# Altium footprint library ARMflash_C_V5_1.PcbLib: 72 footprints (part 1 of 5)
Each footprint in its own frame and in the unit in brackets; x right, y up, seen from the top. Pads: shape width x height; smd on the part's side, far side on the other; paste and mask are expansions set on the pad; w line width, h text height; cw(c..) or ccw(c..) is an arc to the next point about the centre after c.
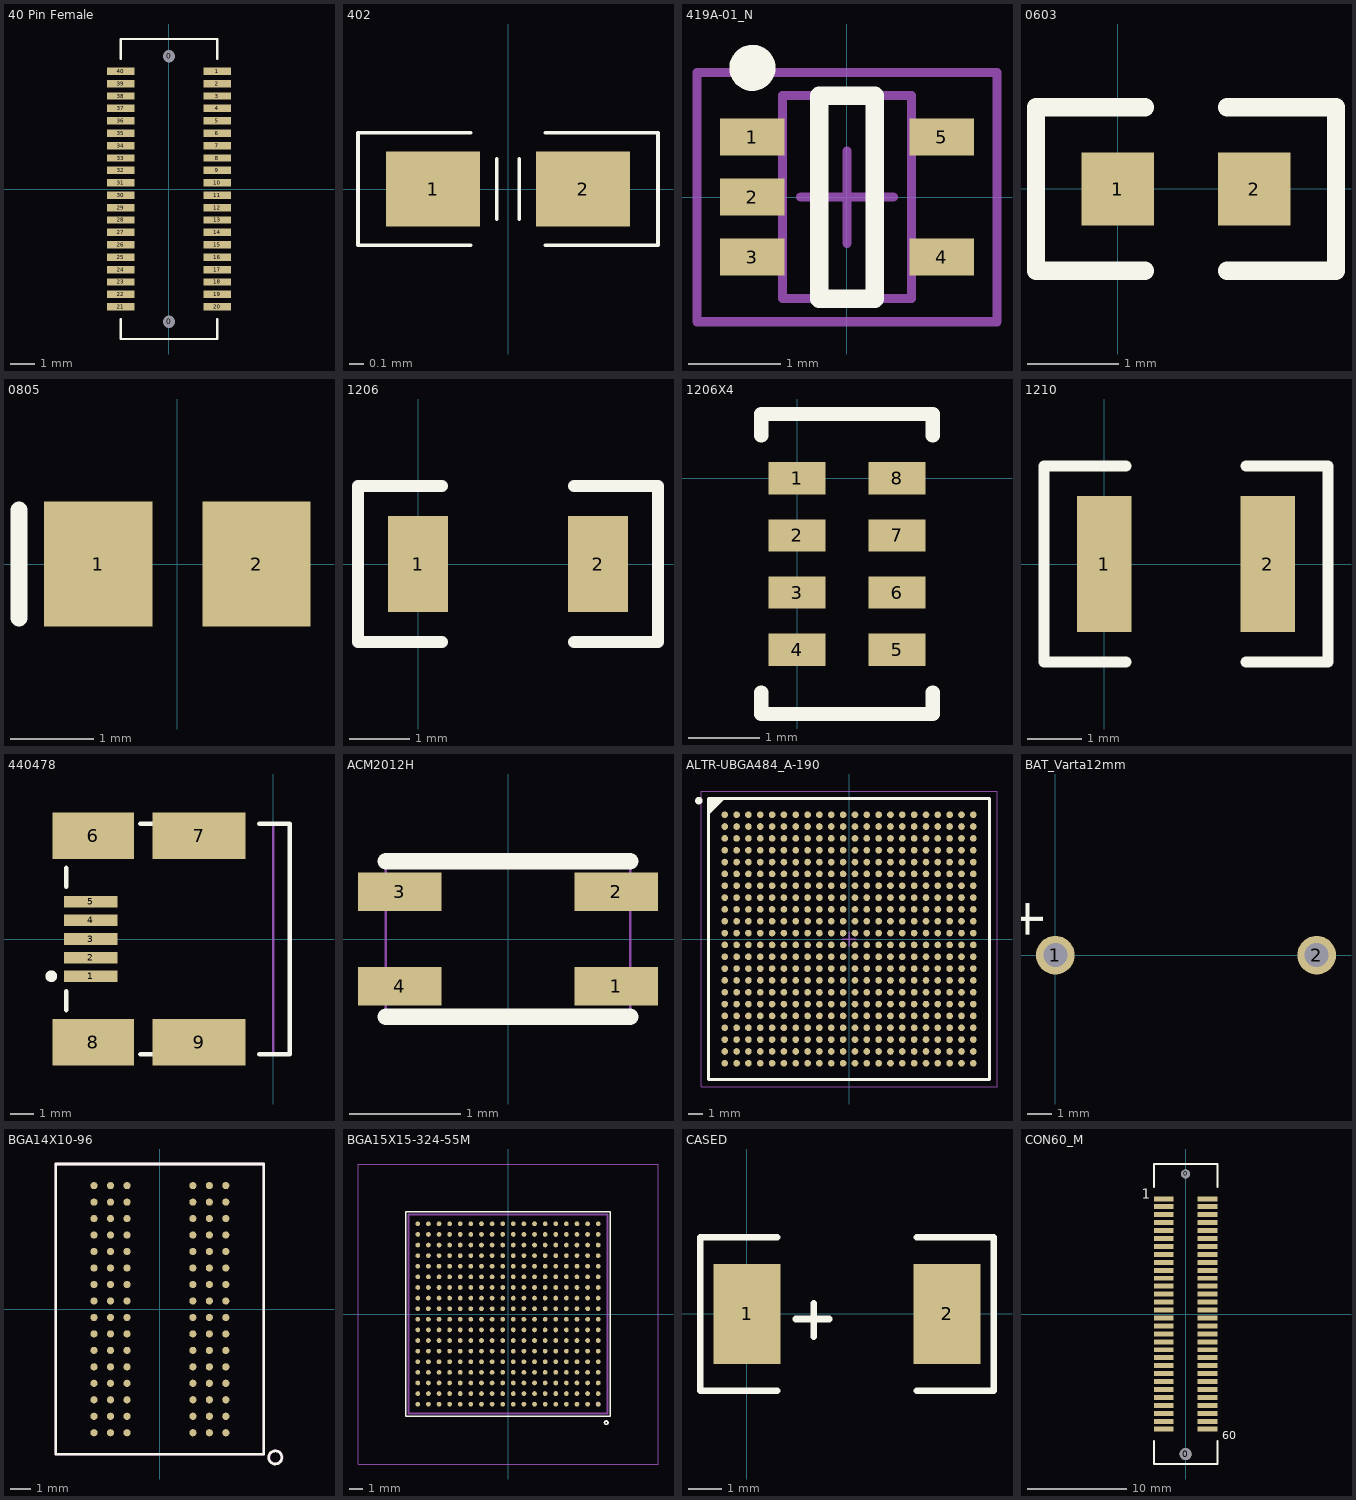
[diagram p0: the footprints below, top view; thin cyan lines are the x and y axes]

## 40 Pin Female [mm]
height 5
pads (42):
  round 0.4 hole 0.5 unplated paste-0.03 mask+0: 0(0,-5.35) 0(0,5.35)
  rect 1.1x0.3 smd paste-0.03 mask+0.05: 1(1.95,4.75) 2(1.95,4.25) 3(1.95,3.75) 4(1.95,3.25) 5(1.95,2.75) 6(1.95,2.25) 7(1.95,1.75) 8(1.95,1.25) 9(1.95,0.75) 10(1.95,0.25) 11(1.95,-0.25) 12(1.95,-0.75) 13(1.95,-1.25) 14(1.95,-1.75) 15(1.95,-2.25) 16(1.95,-2.75) 17(1.95,-3.25) 18(1.95,-3.75) 19(1.95,-4.25) 20(1.95,-4.75) 21(-1.95,-4.75) 22(-1.95,-4.25) 23(-1.95,-3.75) 24(-1.95,-3.25) 25(-1.95,-2.75) 26(-1.95,-2.25) 27(-1.95,-1.75) 28(-1.95,-1.25) 29(-1.95,-0.75) 30(-1.95,-0.25) 31(-1.95,0.25) 32(-1.95,0.75) 33(-1.95,1.25) 34(-1.95,1.75) 35(-1.95,2.25) 36(-1.95,2.75) 37(-1.95,3.25) 38(-1.95,3.75) 39(-1.95,4.25) 40(-1.95,4.75)
Top Overlay:
  lines w0.1: -1.95,-5.25 -1.95,-6.05 1.95,-6.05 1.95,-5.25 ; -1.95,5.25 -1.95,6.05 1.95,6.05 1.95,5.25

## 402 [mil]
pads (2):
  rect 25x20 smd paste-1.18 mask+2: 1(-20,0) 2(20,0)
Top Overlay:
  lines w1: -10,-15 -40,-15 -40,15 -10,15 ; -3,-8 -3,8 ; 3,-8 3,8 ; 10,-15 40,-15 40,15 10,15

## 419A-01_N [mm]
pads (5):
  rect 0.7x0.4 smd paste-0.03: 1(-1.025,0.65) 2(-1.025,0) 3(-1.025,-0.65) 4(1.025,-0.65) 5(1.025,0.65)
Top Overlay:
  circle w0.25: c-1.025,1.4 r0.125
  lines w0.2: -0.3,-1.1 0.3,-1.1 0.3,1.1 -0.3,1.1 -0.3,-1.1
Mechanical 13:
  lines w0.1: -0.7,-1.1 -0.7,1.1 0.7,1.1 0.7,-1.1 -0.7,-1.1
Mechanical 15:
  lines w0.1: -0.5,0 0.5,0 ; 0,-0.5 0,0.5 ; -1.625,-1.35 -1.625,1.35 1.625,1.35 1.625,-1.35 -1.625,-1.35
3D body: height 1.1, standoff 0, extent -0.7,-1.1 0.7,1.1

## 0603 [mm]
pads (2):
  rect 0.8x0.8 smd paste-0.03: 1(0,0) 2(1.5,0)
Top Overlay:
  lines w0.2: 0.3,-0.9 -0.9,-0.9 -0.9,0.9 0.3,0.9 ; 1.2,-0.9 2.4,-0.9 2.4,0.9 1.2,0.9

## 0805 [mm] "Chip Capacitor; Body 2.0 x 1.2 mm (LxW typ)"
height 1.3
pads (2):
  rect 1.3x1.5 smd paste-0.03: 1(-0.95,0) 2(0.95,0)
Top Overlay:
  lines w0.2: -1.9,-0.65 -1.9,0.65

## 1206 [mm] "1206 smd"
height 1.6
pads (2):
  rect 1x1.6 smd paste-0.03: 1(0,0) 2(3,0)
Top Overlay:
  lines w0.2: 0.4,-1.3 -1,-1.3 -1,1.3 0.4,1.3 ; 2.6,-1.3 4,-1.3 4,1.3 2.6,1.3

## 1206X4 [mm]
pads (8):
  rect 0.8x0.45 smd paste-0.03: 1(0,0) 2(0,-0.8) 3(0,-1.6) 4(0,-2.4) 5(1.4,-2.4) 6(1.4,-1.6) 7(1.4,-0.8) 8(1.4,0)
Top Overlay:
  lines w0.2: -0.5,-3 -0.5,-3.3 1.9,-3.3 1.9,-3 ; -0.5,0.6 -0.5,0.9 1.9,0.9 1.9,0.6

## 1210 [mm]
pads (2):
  rect 1x2.5 smd paste-0.03: 1(0,0) 2(3,0)
Top Overlay:
  lines w0.2: 0.4,-1.8 -1.1,-1.8 -1.1,1.8 0.4,1.8 ; 2.6,-1.8 4.1,-1.8 4.1,1.8 2.6,1.8

## 440478 [mm]
pads (9):
  rect 2.3x0.5 smd paste-0.03 mask+0.051: 1(-7.85,-1.6) 2(-7.85,-0.8) 3(-7.85,0) 4(-7.85,0.8) 5(-7.85,1.6)
  rect 3.5x2 smd paste-0.03: 6(-7.75,4.45) 8(-7.75,-4.45)
  rect 4x2 smd paste-0.03: 7(-3.197,4.45) 9(-3.197,-4.45)
Top Overlay:
  circle w0.25: c-9.55,-1.6 r0.125
  lines w0.2: -8.9,-3.05 -8.9,-2.25 ; -8.9,2.25 -8.9,3.05 ; -5.715,-4.953 -5.207,-4.953 ; -5.715,4.953 -5.207,4.953 ; -0.6,-4.95 0.7,-4.95 0.7,4.95 -0.6,4.95
Mechanical 1:
  lines w0.1: 0,-4.95 0,4.95
  text "PCB Edge" at 0.432,-4.036 h0.25

## ACM2012H [mm] "ACM2012H"
pads (4):
  rect 0.75x0.35 smd paste-0.03: 1(0.975,-0.425) 2(0.975,0.425) 3(-0.975,0.425) 4(-0.975,-0.425)
Top Overlay:
  lines w0.15: -1.1,-0.7 1.1,-0.7 ; -1.1,0.7 1.1,0.7
Mechanical 16:
  lines w0.025: -1.1,-0.7 -1.1,0.7 1.1,0.7 1.1,-0.7 -1.1,-0.7
  text "1" at 1.097,-1.226 h0.64
  text "3" at -0.975,0.933 h0.64
  text "4" at -0.975,0.083 h0.64
  text "2" at 0.975,0.933 h0.64
  text "1" at 0.975,0.083 h0.64

## ALTR-UBGA484_A-190 [mm] "BGA, 484-Balls, Body 19x19mm, Pitch 0.8mm"
height 1.9
pads (484):
  round 0.45 smd paste-0.01: A1(-8.4,8.4) A2(-7.6,8.4) A3(-6.8,8.4) A4(-6,8.4) A5(-5.2,8.4) A6(-4.4,8.4) A7(-3.6,8.4) A8(-2.8,8.4) A9(-2,8.4) A10(-1.2,8.4) A11(-0.4,8.4) A12(0.4,8.4) A13(1.2,8.4) A14(2,8.4) A15(2.8,8.4) A16(3.6,8.4) A17(4.4,8.4) A18(5.2,8.4) A19(6,8.4) A20(6.8,8.4) A21(7.6,8.4) A22(8.4,8.4) AA1(-8.4,-7.6) AA2(-7.6,-7.6) AA3(-6.8,-7.6) AA4(-6,-7.6) AA5(-5.2,-7.6) AA6(-4.4,-7.6) AA7(-3.6,-7.6) AA8(-2.8,-7.6) AA9(-2,-7.6) AA10(-1.2,-7.6) AA11(-0.4,-7.6) AA12(0.4,-7.6) AA13(1.2,-7.6) AA14(2,-7.6) AA15(2.8,-7.6) AA16(3.6,-7.6) AA17(4.4,-7.6) AA18(5.2,-7.6) AA19(6,-7.6) AA20(6.8,-7.6) AA21(7.6,-7.6) AA22(8.4,-7.6) AB1(-8.4,-8.4) AB2(-7.6,-8.4) AB3(-6.8,-8.4) AB4(-6,-8.4) AB5(-5.2,-8.4) AB6(-4.4,-8.4) AB7(-3.6,-8.4) AB8(-2.8,-8.4) AB9(-2,-8.4) AB10(-1.2,-8.4) AB11(-0.4,-8.4) AB12(0.4,-8.4) AB13(1.2,-8.4) AB14(2,-8.4) AB15(2.8,-8.4) AB16(3.6,-8.4) AB17(4.4,-8.4) AB18(5.2,-8.4) AB19(6,-8.4) AB20(6.8,-8.4) AB21(7.6,-8.4) AB22(8.4,-8.4) B1(-8.4,7.6) B2(-7.6,7.6) B3(-6.8,7.6) B4(-6,7.6) B5(-5.2,7.6) B6(-4.4,7.6) B7(-3.6,7.6) B8(-2.8,7.6) B9(-2,7.6) B10(-1.2,7.6) B11(-0.4,7.6) B12(0.4,7.6) B13(1.2,7.6) B14(2,7.6) B15(2.8,7.6) B16(3.6,7.6) B17(4.4,7.6) B18(5.2,7.6) B19(6,7.6) B20(6.8,7.6) B21(7.6,7.6) B22(8.4,7.6) C1(-8.4,6.8) C2(-7.6,6.8) C3(-6.8,6.8) C4(-6,6.8) C5(-5.2,6.8) C6(-4.4,6.8) C7(-3.6,6.8) C8(-2.8,6.8) C9(-2,6.8) C10(-1.2,6.8) C11(-0.4,6.8) C12(0.4,6.8) C13(1.2,6.8) C14(2,6.8) C15(2.8,6.8) C16(3.6,6.8) C17(4.4,6.8) C18(5.2,6.8) C19(6,6.8) C20(6.8,6.8) C21(7.6,6.8) C22(8.4,6.8) D1(-8.4,6) D2(-7.6,6) D3(-6.8,6) D4(-6,6) D5(-5.2,6) D6(-4.4,6) D7(-3.6,6) D8(-2.8,6) D9(-2,6) D10(-1.2,6) D11(-0.4,6) D12(0.4,6) D13(1.2,6) D14(2,6) D15(2.8,6) D16(3.6,6) D17(4.4,6) D18(5.2,6) D19(6,6) D20(6.8,6) D21(7.6,6) D22(8.4,6) E1(-8.4,5.2) E2(-7.6,5.2) E3(-6.8,5.2) E4(-6,5.2) E5(-5.2,5.2) E6(-4.4,5.2) E7(-3.6,5.2) E8(-2.8,5.2) E9(-2,5.2) E10(-1.2,5.2) E11(-0.4,5.2) E12(0.4,5.2) E13(1.2,5.2) E14(2,5.2) E15(2.8,5.2) E16(3.6,5.2) E17(4.4,5.2) E18(5.2,5.2) E19(6,5.2) E20(6.8,5.2) E21(7.6,5.2) E22(8.4,5.2) F1(-8.4,4.4) F2(-7.6,4.4) F3(-6.8,4.4) F4(-6,4.4) F5(-5.2,4.4) F6(-4.4,4.4) F7(-3.6,4.4) F8(-2.8,4.4) F9(-2,4.4) F10(-1.2,4.4) F11(-0.4,4.4) F12(0.4,4.4) F13(1.2,4.4) F14(2,4.4) F15(2.8,4.4) F16(3.6,4.4) F17(4.4,4.4) F18(5.2,4.4) F19(6,4.4) F20(6.8,4.4) F21(7.6,4.4) F22(8.4,4.4) G1(-8.4,3.6) G2(-7.6,3.6) G3(-6.8,3.6) G4(-6,3.6) G5(-5.2,3.6) G6(-4.4,3.6) G7(-3.6,3.6) G8(-2.8,3.6) G9(-2,3.6) G10(-1.2,3.6) G11(-0.4,3.6) G12(0.4,3.6) G13(1.2,3.6) G14(2,3.6) G15(2.8,3.6) G16(3.6,3.6) G17(4.4,3.6) G18(5.2,3.6) G19(6,3.6) G20(6.8,3.6) G21(7.6,3.6) G22(8.4,3.6) H1(-8.4,2.8) H2(-7.6,2.8) H3(-6.8,2.8) H4(-6,2.8) H5(-5.2,2.8) H6(-4.4,2.8) H7(-3.6,2.8) H8(-2.8,2.8) H9(-2,2.8) H10(-1.2,2.8) H11(-0.4,2.8) H12(0.4,2.8) H13(1.2,2.8) H14(2,2.8) H15(2.8,2.8) H16(3.6,2.8) H17(4.4,2.8) H18(5.2,2.8) H19(6,2.8) H20(6.8,2.8) H21(7.6,2.8) H22(8.4,2.8) J1(-8.4,2) J2(-7.6,2) J3(-6.8,2) J4(-6,2) J5(-5.2,2) J6(-4.4,2) J7(-3.6,2) J8(-2.8,2) J9(-2,2) J10(-1.2,2) J11(-0.4,2) J12(0.4,2) J13(1.2,2) J14(2,2) J15(2.8,2) J16(3.6,2) J17(4.4,2) J18(5.2,2) J19(6,2) J20(6.8,2) J21(7.6,2) J22(8.4,2) K1(-8.4,1.2) K2(-7.6,1.2) K3(-6.8,1.2) K4(-6,1.2) K5(-5.2,1.2) K6(-4.4,1.2) K7(-3.6,1.2) K8(-2.8,1.2) K9(-2,1.2) K10(-1.2,1.2) K11(-0.4,1.2) K12(0.4,1.2) K13(1.2,1.2) K14(2,1.2) K15(2.8,1.2) K16(3.6,1.2) K17(4.4,1.2) K18(5.2,1.2) K19(6,1.2) K20(6.8,1.2) K21(7.6,1.2) K22(8.4,1.2) L1(-8.4,0.4) L2(-7.6,0.4) L3(-6.8,0.4) L4(-6,0.4) L5(-5.2,0.4) L6(-4.4,0.4) L7(-3.6,0.4) L8(-2.8,0.4) L9(-2,0.4) L10(-1.2,0.4) L11(-0.4,0.4) L12(0.4,0.4) L13(1.2,0.4) L14(2,0.4) L15(2.8,0.4) L16(3.6,0.4) L17(4.4,0.4) L18(5.2,0.4) L19(6,0.4) L20(6.8,0.4) L21(7.6,0.4) L22(8.4,0.4) M1(-8.4,-0.4) M2(-7.6,-0.4) M3(-6.8,-0.4) M4(-6,-0.4) M5(-5.2,-0.4) M6(-4.4,-0.4) M7(-3.6,-0.4) M8(-2.8,-0.4) M9(-2,-0.4) M10(-1.2,-0.4) M11(-0.4,-0.4) M12(0.4,-0.4) M13(1.2,-0.4) M14(2,-0.4) M15(2.8,-0.4) M16(3.6,-0.4) M17(4.4,-0.4) M18(5.2,-0.4) M19(6,-0.4) M20(6.8,-0.4) M21(7.6,-0.4) M22(8.4,-0.4) N1(-8.4,-1.2) N2(-7.6,-1.2) N3(-6.8,-1.2) N4(-6,-1.2) N5(-5.2,-1.2) N6(-4.4,-1.2) N7(-3.6,-1.2) N8(-2.8,-1.2) N9(-2,-1.2) N10(-1.2,-1.2) N11(-0.4,-1.2) N12(0.4,-1.2) N13(1.2,-1.2) N14(2,-1.2) N15(2.8,-1.2) N16(3.6,-1.2) N17(4.4,-1.2) N18(5.2,-1.2) N19(6,-1.2) N20(6.8,-1.2) N21(7.6,-1.2) N22(8.4,-1.2) P1(-8.4,-2) P2(-7.6,-2) P3(-6.8,-2) P4(-6,-2) P5(-5.2,-2) P6(-4.4,-2) P7(-3.6,-2) P8(-2.8,-2) P9(-2,-2) P10(-1.2,-2) P11(-0.4,-2) P12(0.4,-2) P13(1.2,-2) P14(2,-2) P15(2.8,-2) P16(3.6,-2) P17(4.4,-2) P18(5.2,-2) P19(6,-2) P20(6.8,-2) P21(7.6,-2) P22(8.4,-2) R1(-8.4,-2.8) R2(-7.6,-2.8) R3(-6.8,-2.8) R4(-6,-2.8) R5(-5.2,-2.8) R6(-4.4,-2.8) R7(-3.6,-2.8) R8(-2.8,-2.8) R9(-2,-2.8) R10(-1.2,-2.8) R11(-0.4,-2.8) R12(0.4,-2.8) R13(1.2,-2.8) R14(2,-2.8) R15(2.8,-2.8) R16(3.6,-2.8) R17(4.4,-2.8) R18(5.2,-2.8) R19(6,-2.8) R20(6.8,-2.8) R21(7.6,-2.8) R22(8.4,-2.8) T1(-8.4,-3.6) T2(-7.6,-3.6) T3(-6.8,-3.6) T4(-6,-3.6) T5(-5.2,-3.6) T6(-4.4,-3.6) T7(-3.6,-3.6) T8(-2.8,-3.6) T9(-2,-3.6) T10(-1.2,-3.6) T11(-0.4,-3.6) T12(0.4,-3.6) T13(1.2,-3.6) T14(2,-3.6) T15(2.8,-3.6) T16(3.6,-3.6) T17(4.4,-3.6) T18(5.2,-3.6) T19(6,-3.6) T20(6.8,-3.6) T21(7.6,-3.6) T22(8.4,-3.6) U1(-8.4,-4.4) U2(-7.6,-4.4) U3(-6.8,-4.4) U4(-6,-4.4) U5(-5.2,-4.4) U6(-4.4,-4.4) U7(-3.6,-4.4) U8(-2.8,-4.4) U9(-2,-4.4) U10(-1.2,-4.4) U11(-0.4,-4.4) U12(0.4,-4.4) U13(1.2,-4.4) U14(2,-4.4) U15(2.8,-4.4) U16(3.6,-4.4) U17(4.4,-4.4) U18(5.2,-4.4) U19(6,-4.4) U20(6.8,-4.4) U21(7.6,-4.4) U22(8.4,-4.4) V1(-8.4,-5.2) V2(-7.6,-5.2) V3(-6.8,-5.2) V4(-6,-5.2) V5(-5.2,-5.2) V6(-4.4,-5.2) V7(-3.6,-5.2) V8(-2.8,-5.2) V9(-2,-5.2) V10(-1.2,-5.2) V11(-0.4,-5.2) V12(0.4,-5.2) V13(1.2,-5.2) V14(2,-5.2) V15(2.8,-5.2) V16(3.6,-5.2) V17(4.4,-5.2) V18(5.2,-5.2) V19(6,-5.2) V20(6.8,-5.2) V21(7.6,-5.2) V22(8.4,-5.2) W1(-8.4,-6) W2(-7.6,-6) W3(-6.8,-6) W4(-6,-6) W5(-5.2,-6) W6(-4.4,-6) W7(-3.6,-6) W8(-2.8,-6) W9(-2,-6) W10(-1.2,-6) W11(-0.4,-6) W12(0.4,-6) W13(1.2,-6) W14(2,-6) W15(2.8,-6) W16(3.6,-6) W17(4.4,-6) W18(5.2,-6) W19(6,-6) W20(6.8,-6) W21(7.6,-6) W22(8.4,-6) Y1(-8.4,-6.8) Y2(-7.6,-6.8) Y3(-6.8,-6.8) Y4(-6,-6.8) Y5(-5.2,-6.8) Y6(-4.4,-6.8) Y7(-3.6,-6.8) Y8(-2.8,-6.8) Y9(-2,-6.8) Y10(-1.2,-6.8) Y11(-0.4,-6.8) Y12(0.4,-6.8) Y13(1.2,-6.8) Y14(2,-6.8) Y15(2.8,-6.8) Y16(3.6,-6.8) Y17(4.4,-6.8) Y18(5.2,-6.8) Y19(6,-6.8) Y20(6.8,-6.8) Y21(7.6,-6.8) Y22(8.4,-6.8)
Top Overlay:
  circle w0.25: c-10.15,9.35 r0.125
  region: -8.5,9.5 -9.5,8.5 -9.5,9.5
  lines w0.2: -9.5,8.5 -8.5,9.5 ; -9.5,-9.5 -9.5,9.5 9.5,9.5 9.5,-9.5 -9.5,-9.5
Mechanical 13:
  lines w0.1: -9.5,-9.5 -9.5,9.5 9.5,9.5 9.5,-9.5 -9.5,-9.5
Mechanical 15:
  lines w0.05: -10,-10 -10,10 10,10 10,-10 -10,-10
  lines w0.1: -0.5,0 0.5,0 ; 0,-0.5 0,0.5
3D body: height 1.9, standoff 0.35, extent -9.5,-9.5 9.5,9.5

## BAT_Varta12mm [mm] "Varta 3.6V 15mA RS 422-387"
height 12.5
pads (2):
  round 1.6 hole 1 paste-0.03: 1(0,0) 2(10.8,0)
Top Overlay:
  text "+" at -0.508,0.61 h1.52

## BGA14X10-96 [mm]
pads (96):
  round 0.35 smd paste-0.01: A1(3.2,-6) A2(2.4,-6) A3(1.6,-6) A7(-1.6,-6) A8(-2.4,-6) A9(-3.2,-6) B1(3.2,-5.2) B2(2.4,-5.2) B3(1.6,-5.2) B7(-1.6,-5.2) B8(-2.4,-5.2) B9(-3.2,-5.2) C1(3.2,-4.4) C2(2.4,-4.4) C3(1.6,-4.4) C7(-1.6,-4.4) C8(-2.4,-4.4) C9(-3.2,-4.4) D1(3.2,-3.6) D2(2.4,-3.6) D3(1.6,-3.6) D7(-1.6,-3.6) D8(-2.4,-3.6) D9(-3.2,-3.6) E1(3.2,-2.8) E2(2.4,-2.8) E3(1.6,-2.8) E7(-1.6,-2.8) E8(-2.4,-2.8) E9(-3.2,-2.8) F1(3.2,-2) F2(2.4,-2) F3(1.6,-2) F7(-1.6,-2) F8(-2.4,-2) F9(-3.2,-2) G1(3.2,-1.2) G2(2.4,-1.2) G3(1.6,-1.2) G7(-1.6,-1.2) G8(-2.4,-1.2) G9(-3.2,-1.2) H1(3.2,-0.4) H2(2.4,-0.4) H3(1.6,-0.4) H7(-1.6,-0.4) H8(-2.4,-0.4) H9(-3.2,-0.4) J1(3.2,0.4) J2(2.4,0.4) J3(1.6,0.4) J7(-1.6,0.4) J8(-2.4,0.4) J9(-3.2,0.4) K1(3.2,1.2) K2(2.4,1.2) K3(1.6,1.2) K7(-1.6,1.2) K8(-2.4,1.2) K9(-3.2,1.2) L1(3.2,2) L2(2.4,2) L3(1.6,2) L7(-1.6,2) L8(-2.4,2) L9(-3.2,2) M1(3.2,2.8) M2(2.4,2.8) M3(1.6,2.8) M7(-1.6,2.8) M8(-2.4,2.8) M9(-3.2,2.8) N1(3.2,3.6) N2(2.4,3.6) N3(1.6,3.6) N7(-1.6,3.6) N8(-2.4,3.6) N9(-3.2,3.6) P1(3.2,4.4) P2(2.4,4.4) P3(1.6,4.4) P7(-1.6,4.4) P8(-2.4,4.4) P9(-3.2,4.4) R1(3.2,5.2) R2(2.4,5.2) R3(1.6,5.2) R7(-1.6,5.2) R8(-2.4,5.2) R9(-3.2,5.2) T1(3.2,6) T2(2.4,6) T3(1.6,6) T7(-1.6,6) T8(-2.4,6) T9(-3.2,6)
Top Overlay:
  circle w0.127: c5.6,-7.2 r0.318
  lines w0.127: -5.05,-7.05 -5.05,7.05 5.05,7.05 5.05,-7.05 -5.05,-7.05
Mechanical 16:
  circle w0.127: c5.613,-7.194 r0.318
  lines w0.127: -5.05,-7.05 -5.05,7.05 5.05,7.05 5.05,-7.05 -5.05,-7.05
  text "T2" at 2.4,5.492 h0.64
  text "L8" at -2.4,1.492 h0.64
  text "J1" at 3.2,-0.108 h0.64
  text "J9" at -3.2,-0.108 h0.64
  text "L1" at 3.2,1.492 h0.64
  text "L9" at -3.2,1.492 h0.64
  text "M7" at -1.6,2.292 h0.64
  text "T7" at -1.6,5.492 h0.64
  text "M3" at 1.6,2.292 h0.64
  text "M8" at -2.4,2.292 h0.64
  text "H1" at 3.2,-0.908 h0.64
  text "K1" at 3.2,0.692 h0.64
  text "B7" at -1.6,-5.708 h0.64
  text "G3" at 1.6,-1.708 h0.64
  text "J7" at -1.6,-0.108 h0.64
  text "L2" at 2.4,1.492 h0.64
  text "K7" at -1.6,0.692 h0.64
  text "D3" at 1.6,-4.108 h0.64
  text "C7" at -1.6,-4.908 h0.64
  text "F3" at 1.6,-2.508 h0.64
  text "E7" at -1.6,-3.308 h0.64
  text "L3" at 1.6,1.492 h0.64
  text "J3" at 1.6,-0.108 h0.64
  text "K3" at 1.6,0.692 h0.64
  text "K9" at -3.2,0.692 h0.64
  text "A7" at -1.6,-6.508 h0.64
  text "C8" at -2.4,-4.908 h0.64
  text "B8" at -2.4,-5.708 h0.64
  text "C2" at 2.4,-4.908 h0.64
  text "D7" at -1.6,-4.108 h0.64
  text "A2" at 2.4,-6.508 h0.64
  text "A3" at 1.6,-6.508 h0.64
  text "C3" at 1.6,-4.908 h0.64
  text "G1" at 3.2,-1.708 h0.64
  text "B1" at 3.2,-5.708 h0.64
  text "B9" at -3.2,-5.708 h0.64
  text "F9" at -3.2,-2.508 h0.64
  text "B3" at 1.6,-5.708 h0.64
  text "E2" at 2.4,-3.308 h0.64
  text "J2" at 2.4,-0.108 h0.64
  text "A9" at -3.2,-6.508 h0.64
  text "D1" at 3.2,-4.108 h0.64
  text "P1" at 3.2,3.892 h0.64
  text "M1" at 3.2,2.292 h0.64
  text "E1" at 3.2,-3.308 h0.64
  text "D8" at -2.4,-4.108 h0.64
  text "G9" at -3.2,-1.708 h0.64
  text "J8" at -2.4,-0.108 h0.64
  text "E8" at -2.4,-3.308 h0.64
  text "G8" at -2.4,-1.708 h0.64
  text "P9" at -3.2,3.892 h0.64
  text "M9" at -3.2,2.292 h0.64
  text "T9" at -3.2,5.492 h0.64
  text "T1" at 3.2,5.492 h0.64
  text "F8" at -2.4,-2.508 h0.64
  text "F7" at -1.6,-2.508 h0.64
  text "F2" at 2.4,-2.508 h0.64
  text "G2" at 2.4,-1.708 h0.64
  text "E3" at 1.6,-3.308 h0.64
  text "H3" at 1.6,-0.908 h0.64
  text "H7" at -1.6,-0.908 h0.64
  text "H8" at -2.4,-0.908 h0.64
  text "N8" at -2.4,3.092 h0.64
  text "M2" at 2.4,2.292 h0.64
  text "T3" at 1.6,5.492 h0.64
  text "N7" at -1.6,3.092 h0.64
  text "R7" at -1.6,4.692 h0.64
  text "L7" at -1.6,1.492 h0.64
  text "R3" at 1.6,4.692 h0.64
  text "T8" at -2.4,5.492 h0.64
  text "R2" at 2.4,4.692 h0.64
  text "R8" at -2.4,4.692 h0.64
  text "P2" at 2.4,3.892 h0.64
  text "P8" at -2.4,3.892 h0.64
  text "N2" at 2.4,3.092 h0.64
  text "P3" at 1.6,3.892 h0.64
  text "P7" at -1.6,3.892 h0.64
  text "A8" at -2.4,-6.508 h0.64
  text "D9" at -3.2,-4.108 h0.64
  text "C9" at -3.2,-4.908 h0.64
  text "E9" at -3.2,-3.308 h0.64
  text "H9" at -3.2,-0.908 h0.64
  text "K8" at -2.4,0.692 h0.64
  text "R9" at -3.2,4.692 h0.64
  text "N9" at -3.2,3.092 h0.64
  text "D2" at 2.4,-4.108 h0.64
  text "A1" at 3.2,-6.508 h0.64
  text "B2" at 2.4,-5.708 h0.64
  text "H2" at 2.4,-0.908 h0.64
  text "G7" at -1.6,-1.708 h0.64
  text "K2" at 2.4,0.692 h0.64
  text "C1" at 3.2,-4.908 h0.64
  text "F1" at 3.2,-2.508 h0.64
  text "R1" at 3.2,4.692 h0.64
  text "N1" at 3.2,3.092 h0.64
  text "N3" at 1.6,3.092 h0.64

## BGA15X15-324-55M [mil] "BGA15X15-324-55M"
pads (324):
  round 14 smd paste-0.39: A1(267.72,-267.72) A2(236.22,-267.72) A3(204.72,-267.72) A4(173.23,-267.72) A5(141.73,-267.72) A6(110.24,-267.72) A7(78.74,-267.72) A8(47.24,-267.72) A9(15.75,-267.72) A10(-15.75,-267.72) A11(-47.24,-267.72) A12(-78.74,-267.72) A13(-110.24,-267.72) A14(-141.73,-267.72) A15(-173.23,-267.72) A16(-204.72,-267.72) A17(-236.22,-267.72) A18(-267.72,-267.72) B1(267.72,-236.22) B2(236.22,-236.22) B3(204.72,-236.22) B4(173.23,-236.22) B5(141.73,-236.22) B6(110.24,-236.22) B7(78.74,-236.22) B8(47.24,-236.22) B9(15.75,-236.22) B10(-15.75,-236.22) B11(-47.24,-236.22) B12(-78.74,-236.22) B13(-110.24,-236.22) B14(-141.73,-236.22) B15(-173.23,-236.22) B16(-204.72,-236.22) B17(-236.22,-236.22) B18(-267.72,-236.22) C1(267.72,-204.72) C2(236.22,-204.72) C3(204.72,-204.72) C4(173.23,-204.72) C5(141.73,-204.72) C6(110.24,-204.72) C7(78.74,-204.72) C8(47.24,-204.72) C9(15.75,-204.72) C10(-15.75,-204.72) C11(-47.24,-204.72) C12(-78.74,-204.72) C13(-110.24,-204.72) C14(-141.73,-204.72) C15(-173.23,-204.72) C16(-204.72,-204.72) C17(-236.22,-204.72) C18(-267.72,-204.72) D1(267.72,-173.23) D2(236.22,-173.23) D3(204.72,-173.23) D4(173.23,-173.23) D5(141.73,-173.23) D6(110.24,-173.23) D7(78.74,-173.23) D8(47.24,-173.23) D9(15.75,-173.23) D10(-15.75,-173.23) D11(-47.24,-173.23) D12(-78.74,-173.23) D13(-110.24,-173.23) D14(-141.73,-173.23) D15(-173.23,-173.23) D16(-204.72,-173.23) D17(-236.22,-173.23) D18(-267.72,-173.23) E1(267.72,-141.73) E2(236.22,-141.73) E3(204.72,-141.73) E4(173.23,-141.73) E5(141.73,-141.73) E6(110.24,-141.73) E7(78.74,-141.73) E8(47.24,-141.73) E9(15.75,-141.73) E10(-15.75,-141.73) E11(-47.24,-141.73) E12(-78.74,-141.73) E13(-110.24,-141.73) E14(-141.73,-141.73) E15(-173.23,-141.73) E16(-204.72,-141.73) E17(-236.22,-141.73) E18(-267.72,-141.73) F1(267.72,-110.24) F2(236.22,-110.24) F3(204.72,-110.24) F4(173.23,-110.24) F5(141.73,-110.24) F6(110.24,-110.24) F7(78.74,-110.24) F8(47.24,-110.24) F9(15.75,-110.24) F10(-15.75,-110.24) F11(-47.24,-110.24) F12(-78.74,-110.24) F13(-110.24,-110.24) F14(-141.73,-110.24) F15(-173.23,-110.24) F16(-204.72,-110.24) F17(-236.22,-110.24) F18(-267.72,-110.24) G1(267.72,-78.74) G2(236.22,-78.74) G3(204.72,-78.74) G4(173.23,-78.74) G5(141.73,-78.74) G6(110.24,-78.74) G7(78.74,-78.74) G8(47.24,-78.74) G9(15.75,-78.74) G10(-15.75,-78.74) G11(-47.24,-78.74) G12(-78.74,-78.74) G13(-110.24,-78.74) G14(-141.73,-78.74) G15(-173.23,-78.74) G16(-204.72,-78.74) G17(-236.22,-78.74) G18(-267.72,-78.74) H1(267.72,-47.24) H2(236.22,-47.24) H3(204.72,-47.24) H4(173.23,-47.24) H5(141.73,-47.24) H6(110.24,-47.24) H7(78.74,-47.24) H8(47.24,-47.24) H9(15.75,-47.24) H10(-15.75,-47.24) H11(-47.24,-47.24) H12(-78.74,-47.24) H13(-110.24,-47.24) H14(-141.73,-47.24) H15(-173.23,-47.24) H16(-204.72,-47.24) H17(-236.22,-47.24) H18(-267.72,-47.24) J1(267.72,-15.75) J2(236.22,-15.75) J3(204.72,-15.75) J4(173.23,-15.75) J5(141.73,-15.75) J6(110.24,-15.75) J7(78.74,-15.75) J8(47.24,-15.75) J9(15.75,-15.75) J10(-15.75,-15.75) J11(-47.24,-15.75) J12(-78.74,-15.75) J13(-110.24,-15.75) J14(-141.73,-15.75) J15(-173.23,-15.75) J16(-204.72,-15.75) J17(-236.22,-15.75) J18(-267.72,-15.75) K1(267.72,15.75) K2(236.22,15.75) K3(204.72,15.75) K4(173.23,15.75) K5(141.73,15.75) K6(110.24,15.75) K7(78.74,15.75) K8(47.24,15.75) K9(15.75,15.75) K10(-15.75,15.75) K11(-47.24,15.75) K12(-78.74,15.75) K13(-110.24,15.75) K14(-141.73,15.75) K15(-173.23,15.75) K16(-204.72,15.75) K17(-236.22,15.75) K18(-267.72,15.75) L1(267.72,47.24) L2(236.22,47.24) L3(204.72,47.24) L4(173.23,47.24) L5(141.73,47.24) L6(110.24,47.24) L7(78.74,47.24) L8(47.24,47.24) L9(15.75,47.24) L10(-15.75,47.24) L11(-47.24,47.24) L12(-78.74,47.24) L13(-110.24,47.24) L14(-141.73,47.24) L15(-173.23,47.24) L16(-204.72,47.24) L17(-236.22,47.24) L18(-267.72,47.24) M1(267.72,78.74) M2(236.22,78.74) M3(204.72,78.74) M4(173.23,78.74) M5(141.73,78.74) M6(110.24,78.74) M7(78.74,78.74) M8(47.24,78.74) M9(15.75,78.74) M10(-15.75,78.74) M11(-47.24,78.74) M12(-78.74,78.74) M13(-110.24,78.74) M14(-141.73,78.74) M15(-173.23,78.74) M16(-204.72,78.74) M17(-236.22,78.74) M18(-267.72,78.74) N1(267.72,110.24) N2(236.22,110.24) N3(204.72,110.24) N4(173.23,110.24) N5(141.73,110.24) N6(110.24,110.24) N7(78.74,110.24) N8(47.24,110.24) N9(15.75,110.24) N10(-15.75,110.24) N11(-47.24,110.24) N12(-78.74,110.24) N13(-110.24,110.24) N14(-141.73,110.24) N15(-173.23,110.24) N16(-204.72,110.24) N17(-236.22,110.24) N18(-267.72,110.24) P1(267.72,141.73) P2(236.22,141.73) P3(204.72,141.73) P4(173.23,141.73) P5(141.73,141.73) P6(110.24,141.73) P7(78.74,141.73) P8(47.24,141.73) P9(15.75,141.73) P10(-15.75,141.73) P11(-47.24,141.73) P12(-78.74,141.73) P13(-110.24,141.73) P14(-141.73,141.73) P15(-173.23,141.73) P16(-204.72,141.73) P17(-236.22,141.73) P18(-267.72,141.73) R1(267.72,173.23) R2(236.22,173.23) R3(204.72,173.23) R4(173.23,173.23) R5(141.73,173.23) R6(110.24,173.23) R7(78.74,173.23) R8(47.24,173.23) R9(15.75,173.23) R10(-15.75,173.23) R11(-47.24,173.23) R12(-78.74,173.23) R13(-110.24,173.23) R14(-141.73,173.23) R15(-173.23,173.23) R16(-204.72,173.23) R17(-236.22,173.23) R18(-267.72,173.23) T1(267.72,204.72) T2(236.22,204.72) T3(204.72,204.72) T4(173.23,204.72) T5(141.73,204.72) T6(110.24,204.72) T7(78.74,204.72) T8(47.24,204.72) T9(15.75,204.72) T10(-15.75,204.72) T11(-47.24,204.72) T12(-78.74,204.72) T13(-110.24,204.72) T14(-141.73,204.72) T15(-173.23,204.72) T16(-204.72,204.72) T17(-236.22,204.72) T18(-267.72,204.72) U1(267.72,236.22) U2(236.22,236.22) U3(204.72,236.22) U4(173.23,236.22) U5(141.73,236.22) U6(110.24,236.22) U7(78.74,236.22) U8(47.24,236.22) U9(15.75,236.22) U10(-15.75,236.22) U11(-47.24,236.22) U12(-78.74,236.22) U13(-110.24,236.22) U14(-141.73,236.22) U15(-173.23,236.22) U16(-204.72,236.22) U17(-236.22,236.22) U18(-267.72,236.22) V1(267.72,267.72) V2(236.22,267.72) V3(204.72,267.72) V4(173.23,267.72) V5(141.73,267.72) V6(110.24,267.72) V7(78.74,267.72) V8(47.24,267.72) V9(15.75,267.72) V10(-15.75,267.72) V11(-47.24,267.72) V12(-78.74,267.72) V13(-110.24,267.72) V14(-141.73,267.72) V15(-173.23,267.72) V16(-204.72,267.72) V17(-236.22,267.72) V18(-267.72,267.72)
Top Overlay:
  circle w5: c291.67,-322.62 r5
  lines w5: -303.5,-303.5 -303.5,303.5 303.5,303.5 303.5,-303.5 -303.5,-303.5
Mechanical 16:
  circle w5: c267.75,-267.64 r5
  lines w1: -445.28,-445.28 445.28,-445.28 445.28,445.28 -445.28,445.28 -445.28,-445.28
  lines w5: -295.28,-295.28 295.28,-295.28 295.28,295.28 -295.28,295.28 -295.28,-295.28
  text "F11" at -47.24,-86.14 h20.08
  text "F10" at -15.75,-86.14 h20.08
  text "F12" at -78.74,-86.14 h20.08
  text "G13" at -110.24,-54.64 h20.08
  text "F13" at -110.24,-86.14 h20.08
  text "H13" at -110.24,-23.14 h20.08
  text "J13" at -110.24,8.35 h20.08
  text "G5" at 141.73,-62.68 h20.08
  text "E5" at 141.73,-125.67 h20.08
  text "J5" at 141.73,0.31 h20.08
  text "K5" at 141.73,31.81 h20.08
  text "L5" at 141.73,63.3 h20.08
  text "H5" at 141.73,-31.18 h20.08
  text "F5" at 141.73,-94.18 h20.08
  text "C6" at 110.24,-188.66 h20.08
  text "V12" at -78.74,291.82 h20.08
  text "T13" at -110.24,228.82 h20.08
  text "C5" at 141.73,-188.66 h20.08
  text "D6" at 110.24,-157.17 h20.08
  text "B5" at 141.73,-220.16 h20.08
  text "A4" at 173.23,-251.66 h20.08
  text "B18" at -267.72,-212.12 h20.08
  text "M5" at 141.73,94.8 h20.08
  text "B4" at 173.23,-220.16 h20.08
  text "T6" at 110.24,220.78 h20.08
  text "R7" at 78.74,189.29 h20.08
  text "T7" at 78.74,220.78 h20.08
  text "T17" at -236.22,228.82 h20.08
  text "K18" at -267.72,39.85 h20.08
  text "J16" at -204.72,8.35 h20.08
  text "R14" at -141.73,197.33 h20.08
  text "T14" at -141.73,228.82 h20.08
  text "D14" at -141.73,-149.13 h20.08
  text "A15" at -173.23,-243.62 h20.08
  text "U17" at -236.22,260.32 h20.08
  text "U18" at -267.72,260.32 h20.08
  text "U8" at 47.24,252.28 h20.08
  text "V8" at 47.24,283.78 h20.08
  text "R9" at 15.75,189.29 h20.08
  text "T9" at 15.75,220.78 h20.08
  text "B12" at -78.74,-212.12 h20.08
  text "P15" at -173.23,165.83 h20.08
  text "C18" at -267.72,-180.62 h20.08
  text "F18" at -267.72,-86.14 h20.08
  text "G15" at -173.23,-54.64 h20.08
  text "G16" at -204.72,-54.64 h20.08
  text "G18" at -267.72,-54.64 h20.08
  text "F17" at -236.22,-86.14 h20.08
  text "V13" at -110.24,291.82 h20.08
  text "T12" at -78.74,228.82 h20.08
  text "U6" at 110.24,252.28 h20.08
  text "T8" at 47.24,220.78 h20.08
  text "R8" at 47.24,189.29 h20.08
  text "V7" at 78.74,283.78 h20.08
  text "F16" at -204.72,-86.14 h20.08
  text "U7" at 78.74,252.28 h20.08
  text "T10" at -15.75,228.82 h20.08
  text "A7" at 78.74,-251.66 h20.08
  text "C7" at 78.74,-188.66 h20.08
  text "B7" at 78.74,-220.16 h20.08
  text "B6" at 110.24,-220.16 h20.08
  text "A17" at -236.22,-243.62 h20.08
  text "U10" at -15.75,260.32 h20.08
  text "U9" at 15.75,252.28 h20.08
  text "G17" at -236.22,-54.64 h20.08
  text "C13" at -110.24,-180.62 h20.08
  text "T11" at -47.24,228.82 h20.08
  text "V17" at -236.22,291.82 h20.08
  text "U13" at -110.24,260.32 h20.08
  text "T16" at -204.72,228.82 h20.08
  text "R12" at -78.74,197.33 h20.08
  text "U16" at -204.72,260.32 h20.08
  text "U12" at -78.74,260.32 h20.08
  text "V16" at -204.72,291.82 h20.08
  text "T15" at -173.23,228.82 h20.08
  text "U15" at -173.23,260.32 h20.08
  text "V15" at -173.23,291.82 h20.08
  text "U14" at -141.73,260.32 h20.08
  text "V14" at -141.73,291.82 h20.08
  text "R13" at -110.24,197.33 h20.08
  text "G2" at 236.22,-62.68 h20.08
  text "V9" at 15.75,283.78 h20.08
  text "H18" at -267.72,-23.14 h20.08
  text "H16" at -204.72,-23.14 h20.08
  text "H17" at -236.22,-23.14 h20.08
  text "J15" at -173.23,8.35 h20.08
  text "C12" at -78.74,-180.62 h20.08
  text "P16" at -204.72,165.83 h20.08
  text "T18" at -267.72,228.82 h20.08
  text "A2" at 236.22,-251.66 h20.08
  text "D18" at -267.72,-149.13 h20.08
  text "D17" at -236.22,-149.13 h20.08
  text "B16" at -204.72,-212.12 h20.08
  text "A16" at -204.72,-243.62 h20.08
  text "U2" at 236.22,252.28 h20.08
  text "T4" at 173.23,220.78 h20.08
  text "T3" at 204.72,220.78 h20.08
  text "R1" at 267.72,189.29 h20.08
  text "V4" at 173.23,283.78 h20.08
  text "V3" at 204.72,283.78 h20.08
  text "R4" at 173.23,189.29 h20.08
  text "T2" at 236.22,220.78 h20.08
  text "T5" at 141.73,220.78 h20.08
  text "U1" at 267.72,252.28 h20.08
  text "R3" at 204.72,189.29 h20.08
  text "T1" at 267.72,220.78 h20.08
  text "U3" at 204.72,252.28 h20.08
  text "V2" at 236.22,283.78 h20.08
  text "U4" at 173.23,252.28 h20.08
  text "R2" at 236.22,189.29 h20.08
  text "M17" at -236.22,102.84 h20.08
  text "M18" at -267.72,102.84 h20.08
  text "J17" at -236.22,8.35 h20.08
  text "L17" at -236.22,71.34 h20.08
  text "L16" at -204.72,71.34 h20.08
  text "L15" at -173.23,71.34 h20.08
  text "M16" at -204.72,102.84 h20.08
  text "L18" at -267.72,71.34 h20.08
  text "J18" at -267.72,8.35 h20.08
  text "K15" at -173.23,39.85 h20.08
  text "K16" at -204.72,39.85 h20.08
  text "K17" at -236.22,39.85 h20.08
  text "C17" at -236.22,-180.62 h20.08
  text "C16" at -204.72,-180.62 h20.08
  text "R10" at -15.75,197.33 h20.08
  text "E7" at 78.74,-125.67 h20.08
  text "E9" at 15.75,-125.67 h20.08
  text "D10" at -15.75,-149.13 h20.08
  text "R11" at -47.24,197.33 h20.08
  text "H15" at -173.23,-23.14 h20.08
  text "A5" at 141.73,-251.66 h20.08
  text "H4" at 173.23,-31.18 h20.08
  text "B3" at 204.72,-220.16 h20.08
  text "A3" at 204.72,-251.66 h20.08
  text "P13" at -110.24,165.83 h20.08
  text "P12" at -78.74,165.83 h20.08
  text "J4" at 173.23,0.31 h20.08
  text "G1" at 267.72,-62.68 h20.08
  text "F15" at -173.23,-86.14 h20.08
  text "P18" at -267.72,165.83 h20.08
  text "R18" at -267.72,197.33 h20.08
  text "R17" at -236.22,197.33 h20.08
  text "L2" at 236.22,63.3 h20.08
  text "P2" at 236.22,157.79 h20.08
  text "P17" at -236.22,165.83 h20.08
  text "P10" at -15.75,165.83 h20.08
  text "P11" at -47.24,165.83 h20.08
  text "N15" at -173.23,134.34 h20.08
  text "R15" at -173.23,197.33 h20.08
  text "E12" at -78.74,-117.63 h20.08
  text "E10" at -15.75,-117.63 h20.08
  text "E11" at -47.24,-117.63 h20.08
  text "E13" at -110.24,-117.63 h20.08
  text "N5" at 141.73,126.3 h20.08
  text "P5" at 141.73,157.79 h20.08
  text "P6" at 110.24,157.79 h20.08
  text "F14" at -141.73,-86.14 h20.08
  text "G14" at -141.73,-54.64 h20.08
  text "K14" at -141.73,39.85 h20.08
  text "L14" at -141.73,71.34 h20.08
  text "R16" at -204.72,197.33 h20.08
  text "N16" at -204.72,134.34 h20.08
  text "B14" at -141.73,-212.12 h20.08
  text "C14" at -141.73,-180.62 h20.08
  text "A12" at -78.74,-243.62 h20.08
  text "B11" at -47.24,-212.12 h20.08
  text "C11" at -47.24,-180.62 h20.08
  text "D7" at 78.74,-157.17 h20.08
  text "A10" at -15.75,-243.62 h20.08
  text "D16" at -204.72,-149.13 h20.08
  text "D15" at -173.23,-149.13 h20.08
  text "V10" at -15.75,291.82 h20.08
  text "U11" at -47.24,260.32 h20.08
  text "J3" at 204.72,0.31 h20.08
  text "C8" at 47.24,-188.66 h20.08
  text "B8" at 47.24,-220.16 h20.08
  text "A8" at 47.24,-251.66 h20.08
  text "A9" at 15.75,-251.66 h20.08
  text "C9" at 15.75,-188.66 h20.08
  text "A6" at 110.24,-251.66 h20.08
  text "B9" at 15.75,-220.16 h20.08
  text "M15" at -173.23,102.84 h20.08
  text "B15" at -173.23,-212.12 h20.08
  text "D2" at 236.22,-157.17 h20.08
  text "A14" at -141.73,-243.62 h20.08
  text "D13" at -110.24,-149.13 h20.08
  text "B13" at -110.24,-212.12 h20.08
  text "A13" at -110.24,-243.62 h20.08
  text "V6" at 110.24,283.78 h20.08
  text "D12" at -78.74,-149.13 h20.08
  text "P9" at 15.75,157.79 h20.08
  text "N6" at 110.24,126.3 h20.08
  text "F9" at 15.75,-94.18 h20.08
  text "E6" at 110.24,-125.67 h20.08
  text "P14" at -141.73,165.83 h20.08
  text "K13" at -110.24,39.85 h20.08
  text "E14" at -141.73,-117.63 h20.08
  text "R6" at 110.24,189.29 h20.08
  text "R5" at 141.73,189.29 h20.08
  text "U5" at 141.73,252.28 h20.08
  text "E16" at -204.72,-117.63 h20.08
  text "E17" at -236.22,-117.63 h20.08
  text "E15" at -173.23,-117.63 h20.08
  text "E18" at -267.72,-117.63 h20.08
  text "V5" at 141.73,283.78 h20.08
  text "V11" at -47.24,291.82 h20.08
  text "C15" at -173.23,-180.62 h20.08
  text "B17" at -236.22,-212.12 h20.08
  text "B10" at -15.75,-212.12 h20.08
  text "H2" at 236.22,-31.18 h20.08
  text "D1" at 267.72,-157.17 h20.08
  text "A11" at -47.24,-243.62 h20.08
  text "N18" at -267.72,134.34 h20.08
  text "N17" at -236.22,134.34 h20.08
  text "J2" at 236.22,0.31 h20.08
  text "L1" at 267.72,63.3 h20.08
  text "P1" at 267.72,157.79 h20.08
  text "M2" at 236.22,94.8 h20.08
  text "B2" at 236.22,-220.16 h20.08
  text "G4" at 173.23,-62.68 h20.08
  text "F1" at 267.72,-94.18 h20.08
  text "G3" at 204.72,-62.68 h20.08
  text "M1" at 267.72,94.8 h20.08
  text "L4" at 173.23,63.3 h20.08
  text "L3" at 204.72,63.3 h20.08
  text "K4" at 173.23,31.81 h20.08
  text "K3" at 204.72,31.81 h20.08
  text "D9" at 15.75,-157.17 h20.08
  text "K2" at 236.22,31.81 h20.08
  text "K1" at 267.72,31.81 h20.08
  text "J1" at 267.72,0.31 h20.08
  text "A1" at 267.72,-251.66 h20.08
  text "V1" at 267.72,283.78 h20.08
  text "J6" at 110.24,0.31 h20.08
  text "H6" at 110.24,-31.18 h20.08
  text "K7" at 78.74,31.81 h20.08
  text "N7" at 78.74,126.3 h20.08
  text "M8" at 47.24,94.8 h20.08
  text "M7" at 78.74,94.8 h20.08
  text "M6" at 110.24,94.8 h20.08
  text "K9" at 15.75,31.81 h20.08
  text "J9" at 15.75,0.31 h20.08
  text "H9" at 15.75,-31.18 h20.08
  text "J8" at 47.24,0.31 h20.08
  text "H8" at 47.24,-31.18 h20.08
  text "J7" at 78.74,0.31 h20.08
  text "H7" at 78.74,-31.18 h20.08
  text "M9" at 15.75,94.8 h20.08
  text "M10" at -15.75,102.84 h20.08
  text "J10" at -15.75,8.35 h20.08
  text "L10" at -15.75,71.34 h20.08
  text "K10" at -15.75,39.85 h20.08
  text "N10" at -15.75,134.34 h20.08
  text "N11" at -47.24,134.34 h20.08
  text "G8" at 47.24,-62.68 h20.08
  text "F8" at 47.24,-94.18 h20.08
  text "G9" at 15.75,-62.68 h20.08
  text "H10" at -15.75,-23.14 h20.08
  text "G11" at -47.24,-54.64 h20.08
  text "M12" at -78.74,102.84 h20.08
  text "J11" at -47.24,8.35 h20.08
  text "H12" at -78.74,-23.14 h20.08
  text "L13" at -110.24,71.34 h20.08
  text "L12" at -78.74,71.34 h20.08
  text "N14" at -141.73,134.34 h20.08
  text "M14" at -141.73,102.84 h20.08
  text "L11" at -47.24,71.34 h20.08
  text "K11" at -47.24,39.85 h20.08
  text "G12" at -78.74,-54.64 h20.08
  text "V18" at -267.72,291.82 h20.08
  text "A18" at -267.72,-243.62 h20.08
  text "P4" at 173.23,157.79 h20.08
  text "P3" at 204.72,157.79 h20.08
  text "N4" at 173.23,126.3 h20.08
  text "N3" at 204.72,126.3 h20.08
  text "N2" at 236.22,126.3 h20.08
  text "N1" at 267.72,126.3 h20.08
  text "M4" at 173.23,94.8 h20.08
  text "M3" at 204.72,94.8 h20.08
  text "E1" at 267.72,-125.67 h20.08
  text "C4" at 173.23,-188.66 h20.08
  text "H3" at 204.72,-31.18 h20.08
  text "E3" at 204.72,-125.67 h20.08
  text "F2" at 236.22,-94.18 h20.08
  text "F4" at 173.23,-94.18 h20.08
  text "C1" at 267.72,-188.66 h20.08
  text "D4" at 173.23,-157.17 h20.08
  text "E2" at 236.22,-125.67 h20.08
  text "D5" at 141.73,-157.17 h20.08
  text "B1" at 267.72,-220.16 h20.08
  text "C2" at 236.22,-188.66 h20.08
  text "C3" at 204.72,-188.66 h20.08
  text "E4" at 173.23,-125.67 h20.08
  text "H1" at 267.72,-31.18 h20.08
  text "F3" at 204.72,-94.18 h20.08
  text "D11" at -47.24,-149.13 h20.08
  text "C10" at -15.75,-180.62 h20.08
  text "D8" at 47.24,-157.17 h20.08
  text "E8" at 47.24,-125.67 h20.08
  text "P7" at 78.74,157.79 h20.08
  text "P8" at 47.24,157.79 h20.08
  text "F6" at 110.24,-94.18 h20.08
  text "F7" at 78.74,-94.18 h20.08
  text "L9" at 15.75,63.3 h20.08
  text "G10" at -15.75,-54.64 h20.08
  text "H11" at -47.24,-23.14 h20.08
  text "N8" at 47.24,126.3 h20.08
  text "N9" at 15.75,126.3 h20.08
  text "M11" at -47.24,102.84 h20.08
  text "N12" at -78.74,134.34 h20.08
  text "N13" at -110.24,134.34 h20.08
  text "M13" at -110.24,102.84 h20.08
  text "J12" at -78.74,8.35 h20.08
  text "K12" at -78.74,39.85 h20.08
  text "L8" at 47.24,63.3 h20.08
  text "L6" at 110.24,63.3 h20.08
  text "K6" at 110.24,31.81 h20.08
  text "G7" at 78.74,-62.68 h20.08
  text "G6" at 110.24,-62.68 h20.08
  text "K8" at 47.24,31.81 h20.08
  text "L7" at 78.74,63.3 h20.08
  text "H14" at -141.73,-23.14 h20.08
  text "J14" at -141.73,8.35 h20.08
  text "D3" at 204.72,-157.17 h20.08
  text "1" at 273.92,-335.28 h25
  text "V" at 343.92,265.72 h25
  text "F" at 340.92,-125.28 h25
  text "L" at 342.92,38.72 h25
  text "6" at 112.92,-331.28 h25
  text "12" at -75.08,-346.28 h25
  text "18" at -314.08,-300.28 h25
  text "A" at 343.92,-269.28 h25

## CASED [mm]
pads (2):
  rect 2x3 smd paste-0.03: 1(0,0) 2(6,0)
Top Overlay:
  lines w0.2: 0.9,-2.3 -1.4,-2.3 -1.4,2.3 0.9,2.3 ; 1.464,-0.152 2.464,-0.152 ; 2.007,-0.686 2.007,0.314 ; 5.1,-2.3 7.4,-2.3 7.4,2.3 5.1,2.3

## CON60_M [mm] "0.8mm header vertical 60 position"
height 5
pads (62):
  round 1.2 hole 1.2 unplated paste-0.03: 0(0,-14.1)
  round 0.889 hole 0.889 unplated paste-0.03: 0(0,14.1)
  rect 2x0.5 smd paste-0.03 mask+0.076: 1(-2.2,11.6) 2(2.2,11.6) 3(-2.2,10.8) 4(2.2,10.8) 5(-2.2,10) 6(2.2,10) 7(-2.2,9.2) 8(2.2,9.2) 9(-2.2,8.4) 10(2.2,8.4) 11(-2.2,7.6) 12(2.2,7.6) 13(-2.2,6.8) 14(2.2,6.8) 15(-2.2,6) 16(2.2,6) 17(-2.2,5.2) 18(2.2,5.2) 19(-2.2,4.4) 20(2.2,4.4) 21(-2.2,3.6) 22(2.2,3.6) 23(-2.2,2.8) 24(2.2,2.8) 25(-2.2,2) 26(2.2,2) 27(-2.2,1.2) 28(2.2,1.2) 29(-2.2,0.4) 30(2.2,0.4) 31(-2.2,-0.4) 32(2.2,-0.4) 33(-2.2,-1.2) 34(2.2,-1.2) 35(-2.2,-2) 36(2.2,-2) 37(-2.2,-2.8) 38(2.2,-2.8) 39(-2.2,-3.6) 40(2.2,-3.6) 41(-2.2,-4.4) 42(2.2,-4.4) 43(-2.2,-5.2) 44(2.2,-5.2) 45(-2.2,-6) 46(2.2,-6) 47(-2.2,-6.8) 48(2.2,-6.8) 49(-2.2,-7.6) 50(2.2,-7.6) 51(-2.2,-8.4) 52(2.2,-8.4) 53(-2.2,-9.2) 54(2.2,-9.2) 55(-2.2,-10) 56(2.2,-10) 57(-2.2,-10.8) 58(2.2,-10.8) 59(-2.2,-11.6) 60(2.2,-11.6)
Top Overlay:
  lines w0.2: -3.2,-12.8 -3.2,-15.1 3.2,-15.1 3.2,-12.8 ; -3.2,12.8 -3.2,15.1 3.2,15.1 3.2,12.8
  text "1" at -4.4,11.6 h1
  text "60" at 3.682,-12.627 h0.8